# Altium integrated library Diodes - TVS.IntLib: 5379 symbols (part 14 of 122)
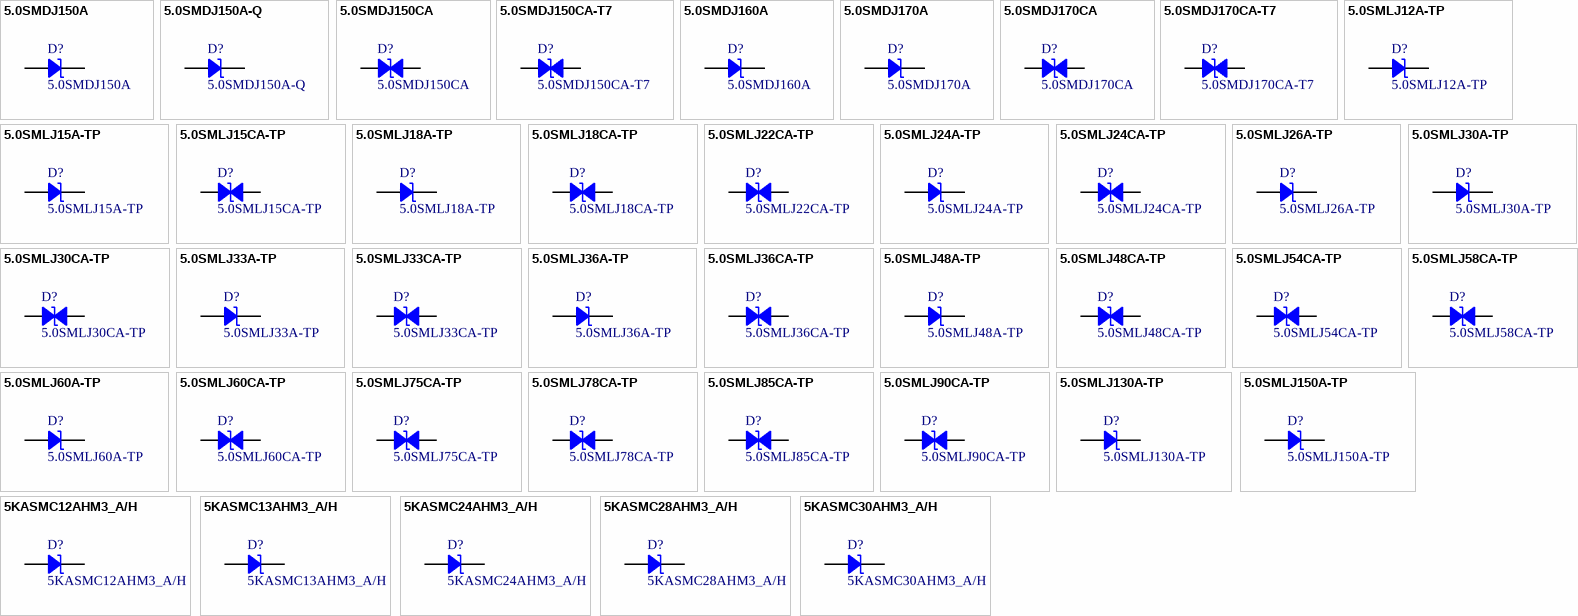
[diagram p147: symbols 5.0SMDJ150A to 5KASMC30AHM3_A/H]

## 5.0SMDJ170CA-T7
designator D?
TVS DIODE 170VWM 275VC SMD; Manufacturer: Littelfuse Inc.; Bidirectional Channels: 1; Current - Peak Pulse (10/1000µs): 18.2A; Power Line Protection: No; Power - Peak Pulse: 5000W (5kW); Type: Zener; Voltage - Breakdown (Min): 189V; Voltage - Clamping (Max) @ Ipp: 275V; Voltage - Reverse Standoff (Typ): 170V; Part Number: 5.0SMDJ170CA-T7; Applications: General Purpose; ComponentLink1Description: Datasheet; ComponentLink1URL: https://www.littelfuse.com/products/tvs-diodes/surface-mount/~/media/electronics/datasheets/tvs_diodes/littelfuse_tvs_diode_5_0smdj_datasheet.pdf.pdf; ComponentLink2Description: DigiKey Link; ComponentLink2URL: http://digikey.com/product-detail/en/littelfuse-inc/5.0SMDJ170CA-T7/5.0SMDJ170CA-T7CT-ND/8548355; LastUpdated: 9/2/2020 1:28:02 AM; Lifecycle Status: Active; Minimum Order: 1; Mounting Type: Surface Mount; Operating Temperature: -65°C ~ 150°C (TJ); Package / Case: DO-214AB, SMC; Packaging: TapeAndReel; PartId: 8022; Part Status: Active; Price: 1.49; Series: 5.0SMDJ; Supplier 1: DigiKey; Supplier Part Number 1: 5.0SMDJ170CA-T7CT-ND; Supplier Device Package: DO-214AB (SMCJ)
footprint DO214AB SMC
pins: 1, 2

## 5.0SMLJ12A-TP
designator D?
TVS DIODE 12V 19.9V DO214AB; Manufacturer: Micro Commercial Co; Current - Peak Pulse (10/1000µs): 252A; Power Line Protection: No; Power - Peak Pulse: 5000W (5kW); Type: Zener; Unidirectional Channels: 1; Voltage - Breakdown (Min): 13.3V; Part Number: 5.0SMLJ12A-TP; Applications: General Purpose; ComponentLink1Description: Datasheet; ComponentLink1URL: https://www.mccsemi.com/pdf/Products/5.0SMLJ11A-5.0SMLJ400A(LSMC)-J.pdf; ComponentLink2Description: DigiKey Link; ComponentLink2URL: http://digikey.com/product-detail/en/micro-commercial-co/5-0SMLJ12A-TP/353-5-0SMLJ12A-TPCT-ND/12090882; LastUpdated: 8/30/2020 9:01:03 PM; Lifecycle Status: Active; Minimum Order: 1; Mounting Type: Surface Mount; Package / Case: DO-214AB, SMC; Packaging: TapeAndReel; PartId: 11447; Price: 0.74; Supplier 1: DigiKey; Supplier Part Number 1: 353-5.0SMLJ12A-TPCT-ND; Supplier Device Package: DO-214AB (SMC); Voltage - Clamping (Max) @ Ipp: 19.9V; Voltage - Reverse Standoff (Typ): 12V
footprint DO214AB SMC
pins: 1, 2

## 5.0SMLJ15A-TP
designator D?
TVS DIODE 15V 24.4V DO214AB; Manufacturer: Micro Commercial Co; Current - Peak Pulse (10/1000µs): 205A; Power Line Protection: No; Power - Peak Pulse: 5000W (5kW); Type: Zener; Unidirectional Channels: 1; Voltage - Breakdown (Min): 16.7V; Part Number: 5.0SMLJ15A-TP; Applications: General Purpose; ComponentLink1Description: Datasheet; ComponentLink1URL: https://www.mccsemi.com/pdf/Products/5.0SMLJ11A-5.0SMLJ400A(LSMC)-J.pdf; ComponentLink2Description: DigiKey Link; ComponentLink2URL: http://digikey.com/product-detail/en/micro-commercial-co/5.0SMLJ15A-TP/5.0SMLJ15A-TPMSCT-ND/2233931; LastUpdated: 9/2/2020 1:20:05 AM; Lifecycle Status: Active; Minimum Order: 1; Mounting Type: Surface Mount; Operating Temperature: -55°C ~ 175°C (TJ); Package / Case: DO-214AB, SMC; Packaging: TapeAndReel; PartId: 6948; Part Status: Active; Price: 0.80; Series: -; Supplier 1: DigiKey; Supplier Part Number 1: 5.0SMLJ15A-TPMSCT-ND; Supplier Device Package: DO-214AB (SMC); Voltage - Clamping (Max) @ Ipp: 24.4V; Voltage - Reverse Standoff (Typ): 15V
footprint DO214AB SMC
pins: 1, 2

## 5.0SMLJ15CA-TP
designator D?
TVS DIODE 15V 24.4V DO214AB; Manufacturer: Micro Commercial Co; Bidirectional Channels: 1; Current - Peak Pulse (10/1000µs): 205A; Power Line Protection: No; Power - Peak Pulse: 5000W (5kW); Type: Zener; Voltage - Breakdown (Min): 16.7V; Part Number: 5.0SMLJ15CA-TP; Applications: General Purpose; ComponentLink1Description: Datasheet; ComponentLink1URL: https://www.mccsemi.com/pdf/Products/5.0SMLJ11A-5.0SMLJ400A(LSMC)-J.pdf; ComponentLink2Description: DigiKey Link; ComponentLink2URL: http://digikey.com/product-detail/en/micro-commercial-co/5.0SMLJ15CA-TP/5.0SMLJ15CA-TPMSCT-ND/2233938; LastUpdated: 9/2/2020 1:28:08 AM; Lifecycle Status: Active; Minimum Order: 1; Mounting Type: Surface Mount; Operating Temperature: -55°C ~ 175°C (TJ); Package / Case: DO-214AB, SMC; Packaging: TapeAndReel; PartId: 8712; Part Status: Active; Price: 0.80; Series: -; Supplier 1: DigiKey; Supplier Part Number 1: 5.0SMLJ15CA-TPMSCT-ND; Supplier Device Package: DO-214AB (SMC); Voltage - Clamping (Max) @ Ipp: 24.4V; Voltage - Reverse Standoff (Typ): 15V
footprint DO214AB SMC
pins: 1, 2

## 5.0SMLJ18A-TP
designator D?
TVS DIODE 18V 29.2V DO214AB; Manufacturer: Micro Commercial Co; Current - Peak Pulse (10/1000µs): 172A; Power Line Protection: No; Power - Peak Pulse: 5000W (5kW); Type: Zener; Unidirectional Channels: 1; Voltage - Breakdown (Min): 20V; Part Number: 5.0SMLJ18A-TP; Applications: General Purpose; ComponentLink1Description: Datasheet; ComponentLink1URL: https://www.mccsemi.com/pdf/Products/5.0SMLJ11A-5.0SMLJ400A(LSMC)-J.pdf; ComponentLink2Description: DigiKey Link; ComponentLink2URL: http://digikey.com/product-detail/en/micro-commercial-co/5.0SMLJ18A-TP/5.0SMLJ18A-TPMSCT-ND/2233932; LastUpdated: 9/2/2020 1:20:05 AM; Lifecycle Status: Active; Minimum Order: 1; Mounting Type: Surface Mount; Operating Temperature: -55°C ~ 175°C (TJ); Package / Case: DO-214AB, SMC; Packaging: TapeAndReel; PartId: 6944; Part Status: Active; Price: 0.80; Series: -; Supplier 1: DigiKey; Supplier Part Number 1: 5.0SMLJ18A-TPMSCT-ND; Supplier Device Package: DO-214AB (SMC); Voltage - Clamping (Max) @ Ipp: 29.2V; Voltage - Reverse Standoff (Typ): 18V
footprint DO214AB SMC
pins: 1, 2

## 5.0SMLJ18CA-TP
designator D?
TVS DIODE 18V 29.2V DO214AB; Manufacturer: Micro Commercial Co; Bidirectional Channels: 1; Current - Peak Pulse (10/1000µs): 172A; Power Line Protection: No; Power - Peak Pulse: 5000W (5kW); Type: Zener; Voltage - Breakdown (Min): 20V; Part Number: 5.0SMLJ18CA-TP; Applications: General Purpose; ComponentLink1Description: Datasheet; ComponentLink1URL: https://www.mccsemi.com/pdf/Products/5.0SMLJ11A-5.0SMLJ400A(LSMC)-J.pdf; ComponentLink2Description: DigiKey Link; ComponentLink2URL: http://digikey.com/product-detail/en/micro-commercial-co/5.0SMLJ18CA-TP/5.0SMLJ18CA-TPMSCT-ND/2233939; LastUpdated: 9/2/2020 1:28:07 AM; Lifecycle Status: Active; Minimum Order: 1; Mounting Type: Surface Mount; Operating Temperature: -55°C ~ 175°C (TJ); Package / Case: DO-214AB, SMC; Packaging: TapeAndReel; PartId: 8551; Part Status: Active; Price: 0.80; Series: -; Supplier 1: DigiKey; Supplier Part Number 1: 5.0SMLJ18CA-TPMSCT-ND; Supplier Device Package: DO-214AB (SMC); Voltage - Clamping (Max) @ Ipp: 29.2V; Voltage - Reverse Standoff (Typ): 18V
footprint DO214AB SMC
pins: 1, 2

## 5.0SMLJ22CA-TP
designator D?
TVS DIODE 22V 35.5V DO214AB; Manufacturer: Micro Commercial Co; Bidirectional Channels: 1; Current - Peak Pulse (10/1000µs): 141A; Power Line Protection: No; Power - Peak Pulse: 5000W (5kW); Type: Zener; Voltage - Breakdown (Min): 24.4V; Part Number: 5.0SMLJ22CA-TP; Applications: General Purpose; ComponentLink1Description: Datasheet; ComponentLink1URL: https://www.mccsemi.com/pdf/Products/5.0SMLJ11A-5.0SMLJ400A(LSMC)-J.pdf; ComponentLink2Description: DigiKey Link; ComponentLink2URL: http://digikey.com/product-detail/en/micro-commercial-co/5.0SMLJ22CA-TP/5.0SMLJ22CA-TPMSCT-ND/5114035; LastUpdated: 9/2/2020 1:28:08 AM; Lifecycle Status: Active; Minimum Order: 1; Mounting Type: Surface Mount; Operating Temperature: -55°C ~ 175°C (TJ); Package / Case: DO-214AB, SMC; Packaging: TapeAndReel; PartId: 8711; Part Status: Active; Price: 0.80; Series: -; Supplier 1: DigiKey; Supplier Part Number 1: 5.0SMLJ22CA-TPMSCT-ND; Supplier Device Package: DO-214AB (SMC); Voltage - Clamping (Max) @ Ipp: 35.5V; Voltage - Reverse Standoff (Typ): 22V
footprint DO214AB SMC
pins: 1, 2

## 5.0SMLJ24A-TP
designator D?
TVS DIODE 24V 38.9V DO214AB; Manufacturer: Micro Commercial Co; Current - Peak Pulse (10/1000µs): 129A; Power Line Protection: No; Power - Peak Pulse: 5000W (5kW); Type: Zener; Unidirectional Channels: 1; Voltage - Breakdown (Min): 26.7V; Part Number: 5.0SMLJ24A-TP; Applications: General Purpose; ComponentLink1Description: Datasheet; ComponentLink1URL: https://www.mccsemi.com/pdf/Products/5.0SMLJ11A-5.0SMLJ400A(LSMC)-J.pdf; ComponentLink2Description: DigiKey Link; ComponentLink2URL: http://digikey.com/product-detail/en/micro-commercial-co/5.0SMLJ24A-TP/5.0SMLJ24A-TPMSCT-ND/2233933; LastUpdated: 9/2/2020 1:20:04 AM; Lifecycle Status: Active; Minimum Order: 1; Mounting Type: Surface Mount; Operating Temperature: -55°C ~ 175°C (TJ); Package / Case: DO-214AB, SMC; Packaging: TapeAndReel; PartId: 6835; Part Status: Active; Price: 0.80; Series: -; Supplier 1: DigiKey; Supplier Part Number 1: 5.0SMLJ24A-TPMSCT-ND; Supplier Device Package: DO-214AB (SMC); Voltage - Clamping (Max) @ Ipp: 38.9V; Voltage - Reverse Standoff (Typ): 24V
footprint DO214AB SMC
pins: 1, 2

## 5.0SMLJ24CA-TP
designator D?
TVS DIODE 24V 38.9V DO214AB; Manufacturer: Micro Commercial Co; Bidirectional Channels: 1; Current - Peak Pulse (10/1000µs): 129A; Power Line Protection: No; Power - Peak Pulse: 5000W (5kW); Type: Zener; Voltage - Breakdown (Min): 26.7V; Part Number: 5.0SMLJ24CA-TP; Applications: General Purpose; ComponentLink1Description: Datasheet; ComponentLink1URL: https://www.mccsemi.com/pdf/Products/5.0SMLJ11A-5.0SMLJ400A(LSMC)-J.pdf; ComponentLink2Description: DigiKey Link; ComponentLink2URL: http://digikey.com/product-detail/en/micro-commercial-co/5.0SMLJ24CA-TP/5.0SMLJ24CA-TPMSCT-ND/2233940; LastUpdated: 9/2/2020 1:28:09 AM; Lifecycle Status: Active; Minimum Order: 1; Mounting Type: Surface Mount; Operating Temperature: -55°C ~ 175°C (TJ); Package / Case: DO-214AB, SMC; Packaging: TapeAndReel; PartId: 8800; Part Status: Active; Price: 0.80; Series: -; Supplier 1: DigiKey; Supplier Part Number 1: 5.0SMLJ24CA-TPMSCT-ND; Supplier Device Package: DO-214AB (SMC); Voltage - Clamping (Max) @ Ipp: 38.9V; Voltage - Reverse Standoff (Typ): 24V
footprint DO214AB SMC
pins: 1, 2

## 5.0SMLJ26A-TP
designator D?
TVS DIODE 26V 42.1V DO214AB; Manufacturer: Micro Commercial Co; Current - Peak Pulse (10/1000µs): 119A; Power Line Protection: No; Power - Peak Pulse: 5000W (5kW); Type: Zener; Unidirectional Channels: 1; Voltage - Breakdown (Min): 28.9V; Part Number: 5.0SMLJ26A-TP; Applications: General Purpose; ComponentLink1Description: Datasheet; ComponentLink1URL: https://www.mccsemi.com/pdf/Products/5.0SMLJ11A-5.0SMLJ400A(LSMC)-J.pdf; ComponentLink2Description: DigiKey Link; ComponentLink2URL: http://digikey.com/product-detail/en/micro-commercial-co/5.0SMLJ26A-TP/5.0SMLJ26A-TPMSCT-ND/5114036; LastUpdated: 9/2/2020 1:20:05 AM; Lifecycle Status: Active; Minimum Order: 1; Mounting Type: Surface Mount; Operating Temperature: -55°C ~ 175°C (TJ); Package / Case: DO-214AB, SMC; Packaging: TapeAndReel; PartId: 6953; Part Status: Active; Price: 0.76; Series: -; Supplier 1: DigiKey; Supplier Part Number 1: 5.0SMLJ26A-TPMSCT-ND; Supplier Device Package: DO-214AB (SMC); Voltage - Clamping (Max) @ Ipp: 42.1V; Voltage - Reverse Standoff (Typ): 26V
footprint DO214AB SMC
pins: 1, 2

## 5.0SMLJ30A-TP
designator D?
TVS DIODE 30V 48.4V DO214AB; Manufacturer: Micro Commercial Co; Current - Peak Pulse (10/1000µs): 103A; Power Line Protection: No; Power - Peak Pulse: 5000W (5kW); Type: Zener; Unidirectional Channels: 1; Voltage - Breakdown (Min): 33.3V; Part Number: 5.0SMLJ30A-TP; Applications: General Purpose; ComponentLink1Description: Datasheet; ComponentLink1URL: https://www.mccsemi.com/pdf/Products/5.0SMLJ11A-5.0SMLJ400A(LSMC)-J.pdf; ComponentLink2Description: DigiKey Link; ComponentLink2URL: http://digikey.com/product-detail/en/micro-commercial-co/5.0SMLJ30A-TP/5.0SMLJ30A-TPMSCT-ND/3191603; LastUpdated: 9/2/2020 1:19:58 AM; Lifecycle Status: Active; Minimum Order: 1; Mounting Type: Surface Mount; Operating Temperature: -55°C ~ 175°C (TJ); Package / Case: DO-214AB, SMC; Packaging: TapeAndReel; PartId: 6235; Part Status: Active; Price: 0.76; Series: -; Supplier 1: DigiKey; Supplier Part Number 1: 5.0SMLJ30A-TPMSCT-ND; Supplier Device Package: DO-214AB (SMC); Voltage - Clamping (Max) @ Ipp: 48.4V; Voltage - Reverse Standoff (Typ): 30V
footprint DO214AB SMC
pins: 1, 2

## 5.0SMLJ30CA-TP
designator D?
TVS DIODE 30V 48.4V DO214AB; Manufacturer: Micro Commercial Co; Bidirectional Channels: 1; Current - Peak Pulse (10/1000µs): 103A; Power Line Protection: No; Power - Peak Pulse: 5000W (5kW); Type: Zener; Voltage - Breakdown (Min): 33.3V; Part Number: 5.0SMLJ30CA-TP; Applications: General Purpose; ComponentLink1Description: Datasheet; ComponentLink1URL: https://www.mccsemi.com/pdf/Products/5.0SMLJ11A-5.0SMLJ400A(LSMC)-J.pdf; ComponentLink2Description: DigiKey Link; ComponentLink2URL: http://digikey.com/product-detail/en/micro-commercial-co/5.0SMLJ30CA-TP/5.0SMLJ30CA-TPMSCT-ND/3191604; LastUpdated: 9/2/2020 1:28:06 AM; Lifecycle Status: Active; Minimum Order: 1; Mounting Type: Surface Mount; Operating Temperature: -55°C ~ 175°C (TJ); Package / Case: DO-214AB, SMC; Packaging: TapeAndReel; PartId: 8425; Part Status: Active; Price: 0.80; Series: -; Supplier 1: DigiKey; Supplier Part Number 1: 5.0SMLJ30CA-TPMSCT-ND; Supplier Device Package: DO-214AB (SMC); Voltage - Clamping (Max) @ Ipp: 48.4V; Voltage - Reverse Standoff (Typ): 30V
footprint DO214AB SMC
pins: 1, 2

## 5.0SMLJ33A-TP
designator D?
TVS DIODE 33V 53.3V DO214AB; Manufacturer: Micro Commercial Co; Current - Peak Pulse (10/1000µs): 93.9A; Power Line Protection: No; Power - Peak Pulse: 5000W (5kW); Type: Zener; Unidirectional Channels: 1; Voltage - Breakdown (Min): 36.7V; Part Number: 5.0SMLJ33A-TP; Applications: General Purpose; ComponentLink1Description: Datasheet; ComponentLink1URL: https://www.mccsemi.com/pdf/Products/5.0SMLJ11A-5.0SMLJ400A(LSMC)-J.pdf; ComponentLink2Description: DigiKey Link; ComponentLink2URL: http://digikey.com/product-detail/en/micro-commercial-co/5.0SMLJ33A-TP/5.0SMLJ33A-TPMSCT-ND/2233934; LastUpdated: 9/2/2020 1:20:05 AM; Lifecycle Status: Active; Minimum Order: 1; Mounting Type: Surface Mount; Operating Temperature: -55°C ~ 175°C (TJ); Package / Case: DO-214AB, SMC; Packaging: TapeAndReel; PartId: 6950; Part Status: Active; Price: 0.80; Series: -; Supplier 1: DigiKey; Supplier Part Number 1: 5.0SMLJ33A-TPMSCT-ND; Supplier Device Package: DO-214AB (SMC); Voltage - Clamping (Max) @ Ipp: 53.3V; Voltage - Reverse Standoff (Typ): 33V
footprint DO214AB SMC
pins: 1, 2

## 5.0SMLJ33CA-TP
designator D?
TVS DIODE 33V 53.3V DO214AB; Manufacturer: Micro Commercial Co; Bidirectional Channels: 1; Current - Peak Pulse (10/1000µs): 93.9A; Power Line Protection: No; Power - Peak Pulse: 5000W (5kW); Type: Zener; Voltage - Breakdown (Min): 36.7V; Part Number: 5.0SMLJ33CA-TP; Applications: General Purpose; ComponentLink1Description: Datasheet; ComponentLink1URL: https://www.mccsemi.com/pdf/Products/5.0SMLJ11A-5.0SMLJ400A(LSMC)-J.pdf; ComponentLink2Description: DigiKey Link; ComponentLink2URL: http://digikey.com/product-detail/en/micro-commercial-co/5.0SMLJ33CA-TP/5.0SMLJ33CA-TPMSCT-ND/2233941; LastUpdated: 9/2/2020 1:28:06 AM; Lifecycle Status: Active; Minimum Order: 1; Mounting Type: Surface Mount; Operating Temperature: -55°C ~ 175°C (TJ); Package / Case: DO-214AB, SMC; Packaging: TapeAndReel; PartId: 8424; Part Status: Active; Price: 0.80; Series: -; Supplier 1: DigiKey; Supplier Part Number 1: 5.0SMLJ33CA-TPMSCT-ND; Supplier Device Package: DO-214AB (SMC); Voltage - Clamping (Max) @ Ipp: 53.3V; Voltage - Reverse Standoff (Typ): 33V
footprint DO214AB SMC
pins: 1, 2

## 5.0SMLJ36A-TP
designator D?
TVS DIODE 36V 58.1V DO214AB; Manufacturer: Micro Commercial Co; Current - Peak Pulse (10/1000µs): 86.1A; Power Line Protection: No; Power - Peak Pulse: 5000W (5kW); Type: Zener; Unidirectional Channels: 1; Voltage - Breakdown (Min): 40V; Part Number: 5.0SMLJ36A-TP; Applications: General Purpose; ComponentLink1Description: Datasheet; ComponentLink1URL: https://www.mccsemi.com/pdf/Products/5.0SMLJ11A-5.0SMLJ400A(LSMC)-J.pdf; ComponentLink2Description: DigiKey Link; ComponentLink2URL: http://digikey.com/product-detail/en/micro-commercial-co/5.0SMLJ36A-TP/5.0SMLJ36A-TPMSCT-ND/2233935; LastUpdated: 9/2/2020 1:20:05 AM; Lifecycle Status: Active; Minimum Order: 1; Mounting Type: Surface Mount; Operating Temperature: -55°C ~ 175°C (TJ); Package / Case: DO-214AB, SMC; Packaging: TapeAndReel; PartId: 6946; Part Status: Active; Price: 0.80; Series: -; Supplier 1: DigiKey; Supplier Part Number 1: 5.0SMLJ36A-TPMSCT-ND; Supplier Device Package: DO-214AB (SMC); Voltage - Clamping (Max) @ Ipp: 58.1V; Voltage - Reverse Standoff (Typ): 36V
footprint DO214AB SMC
pins: 1, 2

## 5.0SMLJ36CA-TP
designator D?
TVS DIODE 36V 58.1V DO214AB; Manufacturer: Micro Commercial Co; Bidirectional Channels: 1; Current - Peak Pulse (10/1000µs): 86.1A; Power Line Protection: No; Power - Peak Pulse: 5000W (5kW); Type: Zener; Voltage - Breakdown (Min): 40V; Part Number: 5.0SMLJ36CA-TP; Applications: General Purpose; ComponentLink1Description: Datasheet; ComponentLink1URL: https://www.mccsemi.com/pdf/Products/5.0SMLJ11A-5.0SMLJ400A(LSMC)-J.pdf; ComponentLink2Description: DigiKey Link; ComponentLink2URL: http://digikey.com/product-detail/en/micro-commercial-co/5.0SMLJ36CA-TP/5.0SMLJ36CA-TPMSCT-ND/2233942; LastUpdated: 9/2/2020 1:28:01 AM; Lifecycle Status: Active; Minimum Order: 1; Mounting Type: Surface Mount; Operating Temperature: -55°C ~ 175°C (TJ); Package / Case: DO-214AB, SMC; Packaging: TapeAndReel; PartId: 7885; Part Status: Active; Price: 0.80; Series: -; Supplier 1: DigiKey; Supplier Part Number 1: 5.0SMLJ36CA-TPMSCT-ND; Supplier Device Package: DO-214AB (SMC); Voltage - Clamping (Max) @ Ipp: 58.1V; Voltage - Reverse Standoff (Typ): 36V
footprint DO214AB SMC
pins: 1, 2

## 5.0SMLJ48A-TP
designator D?
TVS DIODE 48V 77.4V DO214AB; Manufacturer: Micro Commercial Co; Current - Peak Pulse (10/1000µs): 64.7A; Power Line Protection: No; Power - Peak Pulse: 5000W (5kW); Type: Zener; Unidirectional Channels: 1; Voltage - Breakdown (Min): 53.3V; Part Number: 5.0SMLJ48A-TP; Applications: General Purpose; ComponentLink1Description: Datasheet; ComponentLink1URL: https://www.mccsemi.com/pdf/Products/5.0SMLJ11A-5.0SMLJ400A(LSMC)-J.pdf; ComponentLink2Description: DigiKey Link; ComponentLink2URL: http://digikey.com/product-detail/en/micro-commercial-co/5.0SMLJ48A-TP/5.0SMLJ48A-TPMSCT-ND/2233936; LastUpdated: 9/2/2020 1:20:00 AM; Lifecycle Status: Active; Minimum Order: 1; Mounting Type: Surface Mount; Operating Temperature: -55°C ~ 175°C (TJ); Package / Case: DO-214AB, SMC; Packaging: TapeAndReel; PartId: 6444; Part Status: Active; Price: 0.80; Series: -; Supplier 1: DigiKey; Supplier Part Number 1: 5.0SMLJ48A-TPMSCT-ND; Supplier Device Package: DO-214AB (SMC); Voltage - Clamping (Max) @ Ipp: 77.4V; Voltage - Reverse Standoff (Typ): 48V
footprint DO214AB SMC
pins: 1, 2

## 5.0SMLJ48CA-TP
designator D?
TVS DIODE 48V 77.4V DO214AB; Manufacturer: Micro Commercial Co; Bidirectional Channels: 1; Current - Peak Pulse (10/1000µs): 64.7A; Power Line Protection: No; Power - Peak Pulse: 5000W (5kW); Type: Zener; Voltage - Breakdown (Min): 53.3V; Part Number: 5.0SMLJ48CA-TP; Applications: General Purpose; ComponentLink1Description: Datasheet; ComponentLink1URL: https://www.mccsemi.com/pdf/Products/5.0SMLJ11A-5.0SMLJ400A(LSMC)-J.pdf; ComponentLink2Description: DigiKey Link; ComponentLink2URL: http://digikey.com/product-detail/en/micro-commercial-co/5.0SMLJ48CA-TP/5.0SMLJ48CA-TPMSCT-ND/2233943; LastUpdated: 9/2/2020 1:28:06 AM; Lifecycle Status: Active; Minimum Order: 1; Mounting Type: Surface Mount; Operating Temperature: -55°C ~ 175°C (TJ); Package / Case: DO-214AB, SMC; Packaging: TapeAndReel; PartId: 8427; Part Status: Active; Price: 0.80; Series: -; Supplier 1: DigiKey; Supplier Part Number 1: 5.0SMLJ48CA-TPMSCT-ND; Supplier Device Package: DO-214AB (SMC); Voltage - Clamping (Max) @ Ipp: 77.4V; Voltage - Reverse Standoff (Typ): 48V
footprint DO214AB SMC
pins: 1, 2

## 5.0SMLJ54CA-TP
designator D?
TVS DIODE 54V 87.1V DO214AB; Manufacturer: Micro Commercial Co; Bidirectional Channels: 1; Current - Peak Pulse (10/1000µs): 57.5A; Power Line Protection: No; Power - Peak Pulse: 5000W (5kW); Type: Zener; Voltage - Breakdown (Min): 60V; Part Number: 5.0SMLJ54CA-TP; Applications: General Purpose; ComponentLink1Description: Datasheet; ComponentLink1URL: https://www.mccsemi.com/pdf/Products/5.0SMLJ11A-5.0SMLJ400A(LSMC)-J.pdf; ComponentLink2Description: DigiKey Link; ComponentLink2URL: http://digikey.com/product-detail/en/micro-commercial-co/5.0SMLJ54CA-TP/5.0SMLJ54CA-TPMSCT-ND/5865082; LastUpdated: 9/2/2020 1:28:01 AM; Lifecycle Status: Active; Minimum Order: 1; Mounting Type: Surface Mount; Operating Temperature: -55°C ~ 175°C (TJ); Package / Case: DO-214AB, SMC; Packaging: TapeAndReel; PartId: 7884; Part Status: Active; Price: 0.80; Series: -; Supplier 1: DigiKey; Supplier Part Number 1: 5.0SMLJ54CA-TPMSCT-ND; Supplier Device Package: DO-214AB (SMC); Voltage - Clamping (Max) @ Ipp: 87.1V; Voltage - Reverse Standoff (Typ): 54V
footprint DO214AB SMC
pins: 1, 2

## 5.0SMLJ58CA-TP
designator D?
TVS DIODE 58V 93.6V DO214AB; Manufacturer: Micro Commercial Co; Bidirectional Channels: 1; Current - Peak Pulse (10/1000µs): 53.5A; Power Line Protection: No; Power - Peak Pulse: 5000W (5kW); Type: Zener; Voltage - Breakdown (Min): 64.4V; Part Number: 5.0SMLJ58CA-TP; Applications: General Purpose; ComponentLink1Description: Datasheet; ComponentLink1URL: https://www.mccsemi.com/pdf/Products/5.0SMLJ11A-5.0SMLJ400A(LSMC)-J.pdf; ComponentLink2Description: DigiKey Link; ComponentLink2URL: http://digikey.com/product-detail/en/micro-commercial-co/5.0SMLJ58CA-TP/5.0SMLJ58CA-TPMSCT-ND/5418796; LastUpdated: 9/2/2020 1:28:06 AM; Lifecycle Status: Active; Minimum Order: 1; Mounting Type: Surface Mount; Operating Temperature: -55°C ~ 175°C (TJ); Package / Case: DO-214AB, SMC; Packaging: TapeAndReel; PartId: 8426; Part Status: Active; Price: 0.80; Series: -; Supplier 1: DigiKey; Supplier Part Number 1: 5.0SMLJ58CA-TPMSCT-ND; Supplier Device Package: DO-214AB (SMC); Voltage - Clamping (Max) @ Ipp: 93.6V; Voltage - Reverse Standoff (Typ): 58V
footprint DO214AB SMC
pins: 1, 2

## 5.0SMLJ60A-TP
designator D?
TVS DIODE 60V 96.8V DO214AB; Manufacturer: Micro Commercial Co; Current - Peak Pulse (10/1000µs): 51.7A; Power Line Protection: No; Power - Peak Pulse: 5000W (5kW); Type: Zener; Unidirectional Channels: 1; Voltage - Breakdown (Min): 66.7V; Part Number: 5.0SMLJ60A-TP; Applications: General Purpose; ComponentLink1Description: Datasheet; ComponentLink1URL: https://www.mccsemi.com/pdf/Products/5.0SMLJ11A-5.0SMLJ400A(LSMC)-J.pdf; ComponentLink2Description: DigiKey Link; ComponentLink2URL: http://digikey.com/product-detail/en/micro-commercial-co/5.0SMLJ60A-TP/5.0SMLJ60A-TPMSCT-ND/3191605; LastUpdated: 9/2/2020 1:20:08 AM; Lifecycle Status: Active; Minimum Order: 1; Mounting Type: Surface Mount; Operating Temperature: -55°C ~ 175°C (TJ); Package / Case: DO-214AB, SMC; Packaging: TapeAndReel; PartId: 7214; Part Status: Active; Price: 0.76; Series: -; Supplier 1: DigiKey; Supplier Part Number 1: 5.0SMLJ60A-TPMSCT-ND; Supplier Device Package: DO-214AB (SMC); Voltage - Clamping (Max) @ Ipp: 96.8V; Voltage - Reverse Standoff (Typ): 60V
footprint DO214AB SMC
pins: 1, 2

## 5.0SMLJ60CA-TP
designator D?
TVS DIODE 60V 96.8V DO214AB; Manufacturer: Micro Commercial Co; Bidirectional Channels: 1; Current - Peak Pulse (10/1000µs): 51.7A; Power Line Protection: No; Power - Peak Pulse: 5000W (5kW); Type: Zener; Voltage - Breakdown (Min): 66.7V; Part Number: 5.0SMLJ60CA-TP; Applications: General Purpose; ComponentLink1Description: Datasheet; ComponentLink1URL: https://www.mccsemi.com/pdf/Products/5.0SMLJ11A-5.0SMLJ400A(LSMC)-J.pdf; ComponentLink2Description: DigiKey Link; ComponentLink2URL: http://digikey.com/product-detail/en/micro-commercial-co/5.0SMLJ60CA-TP/5.0SMLJ60CA-TPMSCT-ND/3191606; LastUpdated: 9/2/2020 1:28:09 AM; Lifecycle Status: Active; Minimum Order: 1; Mounting Type: Surface Mount; Operating Temperature: -55°C ~ 175°C (TJ); Package / Case: DO-214AB, SMC; Packaging: TapeAndReel; PartId: 8799; Part Status: Active; Price: 0.80; Series: -; Supplier 1: DigiKey; Supplier Part Number 1: 5.0SMLJ60CA-TPMSCT-ND; Supplier Device Package: DO-214AB (SMC); Voltage - Clamping (Max) @ Ipp: 96.8V; Voltage - Reverse Standoff (Typ): 60V
footprint DO214AB SMC
pins: 1, 2

## 5.0SMLJ75CA-TP
designator D?
TVS DIODE 75V 121V DO214AB; Manufacturer: Micro Commercial Co; Bidirectional Channels: 1; Current - Peak Pulse (10/1000µs): 41.4A; Power Line Protection: No; Power - Peak Pulse: 5000W (5kW); Type: Zener; Voltage - Breakdown (Min): 83.3V; Part Number: 5.0SMLJ75CA-TP; Applications: General Purpose; ComponentLink1Description: Datasheet; ComponentLink1URL: https://www.mccsemi.com/pdf/Products/5.0SMLJ11A-5.0SMLJ400A(LSMC)-J.pdf; ComponentLink2Description: DigiKey Link; ComponentLink2URL: http://digikey.com/product-detail/en/micro-commercial-co/5.0SMLJ75CA-TP/5.0SMLJ75CA-TPMSCT-ND/4429424; LastUpdated: 9/2/2020 1:28:07 AM; Lifecycle Status: Active; Minimum Order: 1; Mounting Type: Surface Mount; Operating Temperature: -55°C ~ 175°C (TJ); Package / Case: DO-214AB, SMC; Packaging: TapeAndReel; PartId: 8505; Part Status: Active; Price: 0.80; Series: -; Supplier 1: DigiKey; Supplier Part Number 1: 5.0SMLJ75CA-TPMSCT-ND; Supplier Device Package: DO-214AB (SMC); Voltage - Clamping (Max) @ Ipp: 121V; Voltage - Reverse Standoff (Typ): 75V
footprint DO214AB SMC
pins: 1, 2

## 5.0SMLJ78CA-TP
designator D?
TVS DIODE 78V 126V DO214AB; Manufacturer: Micro Commercial Co; Bidirectional Channels: 1; Current - Peak Pulse (10/1000µs): 39.7A; Power Line Protection: No; Power - Peak Pulse: 5000W (5kW); Type: Zener; Voltage - Breakdown (Min): 86.7V; Part Number: 5.0SMLJ78CA-TP; Applications: General Purpose; ComponentLink1Description: Datasheet; ComponentLink1URL: https://www.mccsemi.com/pdf/Products/5.0SMLJ11A-5.0SMLJ400A(LSMC)-J.pdf; ComponentLink2Description: DigiKey Link; ComponentLink2URL: http://digikey.com/product-detail/en/micro-commercial-co/5.0SMLJ78CA-TP/5.0SMLJ78CA-TPMSCT-ND/4429425; LastUpdated: 9/2/2020 1:28:01 AM; Lifecycle Status: Active; Minimum Order: 1; Mounting Type: Surface Mount; Operating Temperature: -55°C ~ 175°C (TJ); Package / Case: DO-214AB, SMC; Packaging: TapeAndReel; PartId: 7886; Part Status: Active; Price: 0.80; Series: -; Supplier 1: DigiKey; Supplier Part Number 1: 5.0SMLJ78CA-TPMSCT-ND; Supplier Device Package: DO-214AB (SMC); Voltage - Clamping (Max) @ Ipp: 126V; Voltage - Reverse Standoff (Typ): 78V
footprint DO214AB SMC
pins: 1, 2

## 5.0SMLJ85CA-TP
designator D?
TVS DIODE 85V 137V DO214AB; Manufacturer: Micro Commercial Co; Bidirectional Channels: 1; Current - Peak Pulse (10/1000µs): 36.5A; Power Line Protection: No; Power - Peak Pulse: 5000W (5kW); Type: Zener; Voltage - Breakdown (Min): 94.4V; Part Number: 5.0SMLJ85CA-TP; Applications: General Purpose; ComponentLink1Description: Datasheet; ComponentLink1URL: https://www.mccsemi.com/pdf/Products/5.0SMLJ11A-5.0SMLJ400A(LSMC)-J.pdf; ComponentLink2Description: DigiKey Link; ComponentLink2URL: http://digikey.com/product-detail/en/micro-commercial-co/5.0SMLJ85CA-TP/5.0SMLJ85CA-TPMSCT-ND/4429426; LastUpdated: 9/2/2020 1:28:07 AM; Lifecycle Status: Active; Minimum Order: 1; Mounting Type: Surface Mount; Operating Temperature: -55°C ~ 175°C (TJ); Package / Case: DO-214AB, SMC; Packaging: TapeAndReel; PartId: 8507; Part Status: Active; Price: 0.80; Series: -; Supplier 1: DigiKey; Supplier Part Number 1: 5.0SMLJ85CA-TPMSCT-ND; Supplier Device Package: DO-214AB (SMC); Voltage - Clamping (Max) @ Ipp: 137V; Voltage - Reverse Standoff (Typ): 85V
footprint DO214AB SMC
pins: 1, 2

## 5.0SMLJ90CA-TP
designator D?
TVS DIODE 90V 146V DO214AB; Manufacturer: Micro Commercial Co; Bidirectional Channels: 1; Current - Peak Pulse (10/1000µs): 34.3A; Power Line Protection: No; Power - Peak Pulse: 5000W (5kW); Type: Zener; Voltage - Breakdown (Min): 100V; Part Number: 5.0SMLJ90CA-TP; Applications: General Purpose; ComponentLink1Description: Datasheet; ComponentLink1URL: https://www.mccsemi.com/pdf/Products/5.0SMLJ11A-5.0SMLJ400A(LSMC)-J.pdf; ComponentLink2Description: DigiKey Link; ComponentLink2URL: http://digikey.com/product-detail/en/micro-commercial-co/5.0SMLJ90CA-TP/5.0SMLJ90CA-TPMSCT-ND/5865083; LastUpdated: 9/2/2020 1:28:07 AM; Lifecycle Status: Active; Minimum Order: 1; Mounting Type: Surface Mount; Operating Temperature: -55°C ~ 175°C (TJ); Package / Case: DO-214AB, SMC; Packaging: TapeAndReel; PartId: 8506; Part Status: Active; Price: 0.80; Series: -; Supplier 1: DigiKey; Supplier Part Number 1: 5.0SMLJ90CA-TPMSCT-ND; Supplier Device Package: DO-214AB (SMC); Voltage - Clamping (Max) @ Ipp: 146V; Voltage - Reverse Standoff (Typ): 90V
footprint DO214AB SMC
pins: 1, 2

## 5.0SMLJ130A-TP
designator D?
TVS DIODE 130V 209V DO214AB; Manufacturer: Micro Commercial Co; Current - Peak Pulse (10/1000µs): 24A; Power Line Protection: No; Power - Peak Pulse: 5000W (5kW); Type: Zener; Unidirectional Channels: 1; Voltage - Breakdown (Min): 144V; Part Number: 5.0SMLJ130A-TP; Applications: General Purpose; ComponentLink1Description: Datasheet; ComponentLink1URL: https://www.mccsemi.com/pdf/Products/5.0SMLJ11A-5.0SMLJ400A(LSMC)-J.pdf; ComponentLink2Description: DigiKey Link; ComponentLink2URL: http://digikey.com/product-detail/en/micro-commercial-co/5-0SMLJ130A-TP/353-5-0SMLJ130A-TPCT-ND/12090868; LastUpdated: 8/30/2020 9:01:03 PM; Lifecycle Status: Active; Minimum Order: 1; Mounting Type: Surface Mount; Package / Case: DO-214AB, SMC; Packaging: TapeAndReel; PartId: 11448; Price: 0.74; Supplier 1: DigiKey; Supplier Part Number 1: 353-5.0SMLJ130A-TPCT-ND; Supplier Device Package: DO-214AB (SMC); Voltage - Clamping (Max) @ Ipp: 209V; Voltage - Reverse Standoff (Typ): 130V
footprint DO214AB SMC
pins: 1, 2

## 5.0SMLJ150A-TP
designator D?
TVS DIODE 150V 243V DO214AB; Manufacturer: Micro Commercial Co; Current - Peak Pulse (10/1000µs): 20.6A; Power Line Protection: No; Power - Peak Pulse: 5000W (5kW); Type: Zener; Unidirectional Channels: 1; Voltage - Breakdown (Min): 167V; Part Number: 5.0SMLJ150A-TP; Applications: General Purpose; ComponentLink1Description: Datasheet; ComponentLink1URL: https://www.mccsemi.com/pdf/Products/5.0SMLJ11A-5.0SMLJ400A(LSMC)-J.pdf; ComponentLink2Description: DigiKey Link; ComponentLink2URL: http://digikey.com/product-detail/en/micro-commercial-co/5.0SMLJ150A-TP/5.0SMLJ150A-TPMSCT-ND/2233937; LastUpdated: 9/2/2020 1:20:08 AM; Lifecycle Status: Active; Minimum Order: 1; Mounting Type: Surface Mount; Operating Temperature: -55°C ~ 175°C (TJ); Package / Case: DO-214AB, SMC; Packaging: TapeAndReel; PartId: 7208; Part Status: Active; Price: 0.80; Series: -; Supplier 1: DigiKey; Supplier Part Number 1: 5.0SMLJ150A-TPMSCT-ND; Supplier Device Package: DO-214AB (SMC); Voltage - Clamping (Max) @ Ipp: 243V; Voltage - Reverse Standoff (Typ): 150V
footprint DO214AB SMC
pins: 1, 2

## 5KASMC12AHM3_A/H
designator D?
TVS DIODE 12V 19.9V DO214AB; Manufacturer: Vishay Semiconductor Diodes Division; Power Line Protection: No; Power - Peak Pulse: 5000W (5kW); Type: Zener; Unidirectional Channels: 1; Voltage - Breakdown (Min): 13.3V; Part Number: 5KASMC12AHM3_A/H; Applications: Automotive; ComponentLink1Description: Datasheet; ComponentLink1URL: http://www.vishay.com/docs/89432/5kasmc.pdf; ComponentLink2Description: DigiKey Link; ComponentLink2URL: http://digikey.com/product-detail/en/vishay-semiconductor-diodes-division/5KASMC12AHM3_A-H/5KASMC12AHM3_A-HGICT-ND/6710018; LastUpdated: 9/2/2020 1:20:05 AM; Lifecycle Status: Active; Minimum Order: 1; Mounting Type: Surface Mount; Operating Temperature: -65°C ~ 185°C (TJ); Package / Case: DO-214AB, SMC; Packaging: TapeAndReel; PartId: 6911; Part Status: Active; Price: 1.34; Series: Automotive, AEC-Q101, PAR®; Supplier 1: DigiKey; Supplier Part Number 1: 5KASMC12AHM3_A/HGICT-ND; Supplier Device Package: DO-214AB (SMCJ); Voltage - Clamping (Max) @ Ipp: 19.9V; Voltage - Reverse Standoff (Typ): 12V
footprint DO214AB SMC
pins: 1, 2

## 5KASMC13AHM3_A/H
designator D?
TVS DIODE 13V 21.5V DO214AB; Manufacturer: Vishay Semiconductor Diodes Division; Power Line Protection: No; Power - Peak Pulse: 5000W (5kW); Type: Zener; Unidirectional Channels: 1; Voltage - Breakdown (Min): 14.4V; Part Number: 5KASMC13AHM3_A/H; Applications: Automotive; ComponentLink1Description: Datasheet; ComponentLink1URL: http://www.vishay.com/docs/89432/5kasmc.pdf; ComponentLink2Description: DigiKey Link; ComponentLink2URL: http://digikey.com/product-detail/en/vishay-semiconductor-diodes-division/5KASMC13AHM3_A-H/5KASMC13AHM3_A-HGICT-ND/6710019; LastUpdated: 9/2/2020 1:20:06 AM; Lifecycle Status: Active; Minimum Order: 1; Mounting Type: Surface Mount; Operating Temperature: -65°C ~ 185°C (TJ); Package / Case: DO-214AB, SMC; Packaging: TapeAndReel; PartId: 6999; Part Status: Active; Price: 1.34; Series: Automotive, AEC-Q101, PAR®; Supplier 1: DigiKey; Supplier Part Number 1: 5KASMC13AHM3_A/HGICT-ND; Supplier Device Package: DO-214AB (SMCJ); Voltage - Clamping (Max) @ Ipp: 21.5V; Voltage - Reverse Standoff (Typ): 13V
footprint DO214AB SMC
pins: 1, 2

## 5KASMC24AHM3_A/H
designator D?
TVS DIODE 24V 38.9V DO214AB; Manufacturer: Vishay Semiconductor Diodes Division; Power Line Protection: No; Power - Peak Pulse: 5000W (5kW); Type: Zener; Unidirectional Channels: 1; Voltage - Breakdown (Min): 26.7V; Part Number: 5KASMC24AHM3_A/H; Applications: Automotive; ComponentLink1Description: Datasheet; ComponentLink1URL: http://www.vishay.com/docs/89432/5kasmc.pdf; ComponentLink2Description: DigiKey Link; ComponentLink2URL: http://digikey.com/product-detail/en/vishay-semiconductor-diodes-division/5KASMC24AHM3_A-H/5KASMC24AHM3_A-HGICT-ND/6710020; LastUpdated: 9/2/2020 1:20:00 AM; Lifecycle Status: Active; Minimum Order: 1; Mounting Type: Surface Mount; Operating Temperature: -65°C ~ 185°C (TJ); Package / Case: DO-214AB, SMC; Packaging: TapeAndReel; PartId: 6442; Part Status: Active; Price: 1.34; Series: Automotive, AEC-Q101, PAR®; Supplier 1: DigiKey; Supplier Part Number 1: 5KASMC24AHM3_A/HGICT-ND; Supplier Device Package: DO-214AB (SMCJ); Voltage - Clamping (Max) @ Ipp: 38.9V; Voltage - Reverse Standoff (Typ): 24V
footprint DO214AB SMC
pins: 1, 2

## 5KASMC28AHM3_A/H
designator D?
TVS DIODE 28V 45.4V DO214AB; Manufacturer: Vishay Semiconductor Diodes Division; Power Line Protection: No; Power - Peak Pulse: 5000W (5kW); Type: Zener; Unidirectional Channels: 1; Voltage - Breakdown (Min): 31.1V; Part Number: 5KASMC28AHM3_A/H; Applications: Automotive; ComponentLink1Description: Datasheet; ComponentLink1URL: http://www.vishay.com/docs/89432/5kasmc.pdf; ComponentLink2Description: DigiKey Link; ComponentLink2URL: http://digikey.com/product-detail/en/vishay-semiconductor-diodes-division/5KASMC28AHM3_A-H/5KASMC28AHM3_A-HGICT-ND/6710021; LastUpdated: 9/2/2020 1:20:04 AM; Lifecycle Status: Active; Minimum Order: 1; Mounting Type: Surface Mount; Operating Temperature: -65°C ~ 185°C (TJ); Package / Case: DO-214AB, SMC; Packaging: TapeAndReel; PartId: 6796; Part Status: Active; Price: 1.34; Series: Automotive, AEC-Q101, PAR®; Supplier 1: DigiKey; Supplier Part Number 1: 5KASMC28AHM3_A/HGICT-ND; Supplier Device Package: DO-214AB (SMCJ); Voltage - Clamping (Max) @ Ipp: 45.4V; Voltage - Reverse Standoff (Typ): 28V
footprint DO214AB SMC
pins: 1, 2

## 5KASMC30AHM3_A/H
designator D?
TVS DIODE 30V 48.4V DO214AB; Manufacturer: Vishay Semiconductor Diodes Division; Power Line Protection: No; Power - Peak Pulse: 5000W (5kW); Type: Zener; Unidirectional Channels: 1; Voltage - Breakdown (Min): 33.3V; Part Number: 5KASMC30AHM3_A/H; Applications: Automotive; ComponentLink1Description: Datasheet; ComponentLink1URL: http://www.vishay.com/docs/89432/5kasmc.pdf; ComponentLink2Description: DigiKey Link; ComponentLink2URL: http://digikey.com/product-detail/en/vishay-semiconductor-diodes-division/5KASMC30AHM3_A-H/5KASMC30AHM3_A-HGICT-ND/6710022; LastUpdated: 9/2/2020 1:20:00 AM; Lifecycle Status: Active; Minimum Order: 1; Mounting Type: Surface Mount; Operating Temperature: -65°C ~ 185°C (TJ); Package / Case: DO-214AB, SMC; Packaging: TapeAndReel; PartId: 6441; Part Status: Active; Price: 1.34; Series: Automotive, AEC-Q101, PAR®; Supplier 1: DigiKey; Supplier Part Number 1: 5KASMC30AHM3_A/HGICT-ND; Supplier Device Package: DO-214AB (SMCJ); Voltage - Clamping (Max) @ Ipp: 48.4V; Voltage - Reverse Standoff (Typ): 30V
footprint DO214AB SMC
pins: 1, 2

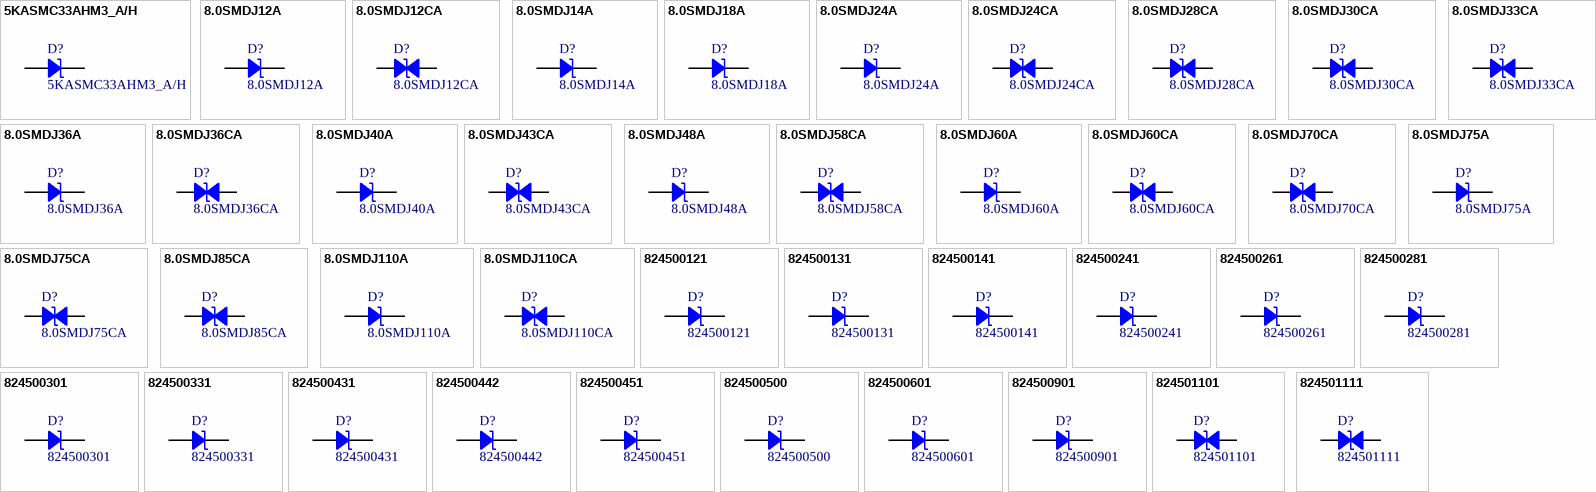
[diagram p15: symbols 5KASMC33AHM3_A/H to 824501111]

## 5KASMC33AHM3_A/H
designator D?
TVS DIODE 33V 53.3V DO214AB; Manufacturer: Vishay Semiconductor Diodes Division; Power Line Protection: No; Power - Peak Pulse: 5000W (5kW); Type: Zener; Unidirectional Channels: 1; Voltage - Breakdown (Min): 36.7V; Part Number: 5KASMC33AHM3_A/H; Applications: Automotive; ComponentLink1Description: Datasheet; ComponentLink1URL: http://www.vishay.com/docs/89432/5kasmc.pdf; ComponentLink2Description: DigiKey Link; ComponentLink2URL: http://digikey.com/product-detail/en/vishay-semiconductor-diodes-division/5KASMC33AHM3_A-H/5KASMC33AHM3_A-HGICT-ND/6710023; LastUpdated: 9/2/2020 1:20:00 AM; Lifecycle Status: Active; Minimum Order: 1; Mounting Type: Surface Mount; Operating Temperature: -65°C ~ 185°C (TJ); Package / Case: DO-214AB, SMC; Packaging: TapeAndReel; PartId: 6440; Part Status: Active; Price: 1.34; Series: Automotive, AEC-Q101, PAR®; Supplier 1: DigiKey; Supplier Part Number 1: 5KASMC33AHM3_A/HGICT-ND; Supplier Device Package: DO-214AB (SMCJ); Voltage - Clamping (Max) @ Ipp: 53.3V; Voltage - Reverse Standoff (Typ): 33V
footprint DO214AB SMC
pins: 1, 2

## 8.0SMDJ12A
designator D?
TVS DIODE 8KW 12V 5%UNI DO-214AB; Manufacturer: Littelfuse Inc.; Current - Peak Pulse (10/1000µs): 402.1A; Power Line Protection: No; Power - Peak Pulse: 8000W (8kW); Type: Zener; Unidirectional Channels: 1; Voltage - Breakdown (Min): 13.3V; Voltage - Clamping (Max) @ Ipp: 19.9V; Part Number: 8.0SMDJ12A; Applications: Telecom; ComponentLink1Description: Datasheet; ComponentLink1URL: https://www.littelfuse.com/~/media/electronics/datasheets/tvs_diodes/littelfuse_tvs_diode_8_0smdj_datasheet.pdf.pdf; ComponentLink2Description: DigiKey Link; ComponentLink2URL: http://digikey.com/product-detail/en/littelfuse-inc/8.0SMDJ12A/8.0SMDJ12ACT-ND/10269612; LastUpdated: 9/2/2020 1:20:04 AM; Lifecycle Status: Active; Minimum Order: 1; Mounting Type: Surface Mount; Operating Temperature: -65°C ~ 150°C (TJ); Package / Case: DO-214AB, SMC; Packaging: TapeAndReel; PartId: 6783; Part Status: Active; Price: 1.49; Series: 8.0SMDJ; Supplier 1: DigiKey; Supplier Part Number 1: 8.0SMDJ12ACT-ND; Supplier Device Package: DO-214AB (SMCJ); Voltage - Reverse Standoff (Typ): 12V
footprint DO214AB SMC
pins: 1, 2

## 8.0SMDJ12CA
designator D?
TVS DIODE 8KW 12V 5%BI DO-214AB; Manufacturer: Littelfuse Inc.; Bidirectional Channels: 1; Current - Peak Pulse (10/1000µs): 402.1A; Power Line Protection: No; Power - Peak Pulse: 8000W (8kW); Type: Zener; Voltage - Breakdown (Min): 13.3V; Voltage - Clamping (Max) @ Ipp: 19.9V; Part Number: 8.0SMDJ12CA; Applications: Telecom; ComponentLink1Description: Datasheet; ComponentLink1URL: https://www.littelfuse.com/~/media/electronics/datasheets/tvs_diodes/littelfuse_tvs_diode_8_0smdj_datasheet.pdf.pdf; ComponentLink2Description: DigiKey Link; ComponentLink2URL: http://digikey.com/product-detail/en/littelfuse-inc/8.0SMDJ12CA/8.0SMDJ12CACT-ND/10269613; LastUpdated: 9/2/2020 1:28:05 AM; Lifecycle Status: Active; Minimum Order: 1; Mounting Type: Surface Mount; Operating Temperature: -65°C ~ 150°C (TJ); Package / Case: DO-214AB, SMC; Packaging: TapeAndReel; PartId: 8391; Part Status: Active; Price: 1.62; Series: 8.0SMDJ; Supplier 1: DigiKey; Supplier Part Number 1: 8.0SMDJ12CACT-ND; Supplier Device Package: DO-214AB (SMCJ); Voltage - Reverse Standoff (Typ): 12V
footprint DO214AB SMC
pins: 1, 2

## 8.0SMDJ14A
designator D?
TVS DIODE 8KW 14V 5%UNI DO-214AB; Manufacturer: Littelfuse Inc.; Current - Peak Pulse (10/1000µs): 344.9A; Power Line Protection: No; Power - Peak Pulse: 8000W (8kW); Type: Zener; Unidirectional Channels: 1; Voltage - Breakdown (Min): 15.6V; Voltage - Clamping (Max) @ Ipp: 23.2V; Part Number: 8.0SMDJ14A; Applications: Telecom; ComponentLink1Description: Datasheet; ComponentLink1URL: https://www.littelfuse.com/~/media/electronics/datasheets/tvs_diodes/littelfuse_tvs_diode_8_0smdj_datasheet.pdf.pdf; ComponentLink2Description: DigiKey Link; ComponentLink2URL: http://digikey.com/product-detail/en/littelfuse-inc/8.0SMDJ14A/8.0SMDJ14ACT-ND/10269614; LastUpdated: 9/2/2020 1:20:03 AM; Lifecycle Status: Active; Minimum Order: 1; Mounting Type: Surface Mount; Operating Temperature: -65°C ~ 150°C (TJ); Package / Case: DO-214AB, SMC; Packaging: TapeAndReel; PartId: 6744; Part Status: Active; Price: 1.49; Series: 8.0SMDJ; Supplier 1: DigiKey; Supplier Part Number 1: 8.0SMDJ14ACT-ND; Supplier Device Package: DO-214AB (SMCJ); Voltage - Reverse Standoff (Typ): 14V
footprint DO214AB SMC
pins: 1, 2

## 8.0SMDJ18A
designator D?
TVS DIODE 8KW 16V 5%UNI DO-214AB; Manufacturer: Littelfuse Inc.; Current - Peak Pulse (10/1000µs): 274A; Power Line Protection: No; Power - Peak Pulse: 8000W (8kW); Type: Zener; Unidirectional Channels: 1; Voltage - Breakdown (Min): 20V; Voltage - Clamping (Max) @ Ipp: 29.2V; Voltage - Reverse Standoff (Typ): 18V; Part Number: 8.0SMDJ18A; Applications: Telecom; ComponentLink1Description: Datasheet; ComponentLink1URL: https://www.littelfuse.com/~/media/electronics/datasheets/tvs_diodes/littelfuse_tvs_diode_8_0smdj_datasheet.pdf.pdf; ComponentLink2Description: DigiKey Link; ComponentLink2URL: http://digikey.com/product-detail/en/littelfuse-inc/8.0SMDJ18A/8.0SMDJ18ACT-ND/10269615; LastUpdated: 9/2/2020 1:20:03 AM; Lifecycle Status: Active; Minimum Order: 1; Mounting Type: Surface Mount; Operating Temperature: -65°C ~ 150°C (TJ); Package / Case: DO-214AB, SMC; Packaging: TapeAndReel; PartId: 6780; Part Status: Active; Price: 1.49; Series: 8.0SMDJ; Supplier 1: DigiKey; Supplier Part Number 1: 8.0SMDJ18ACT-ND; Supplier Device Package: DO-214AB (SMCJ)
footprint DO214AB SMC
pins: 1, 2

## 8.0SMDJ24A
designator D?
TVS DIODE 8KW 24V 5%UNI DO-214AB; Manufacturer: Littelfuse Inc.; Current - Peak Pulse (10/1000µs): 205.7A; Power Line Protection: No; Power - Peak Pulse: 8000W (8kW); Type: Zener; Unidirectional Channels: 1; Voltage - Breakdown (Min): 26.7V; Voltage - Clamping (Max) @ Ipp: 38.9V; Part Number: 8.0SMDJ24A; Applications: Telecom; ComponentLink1Description: Datasheet; ComponentLink1URL: https://www.littelfuse.com/~/media/electronics/datasheets/tvs_diodes/littelfuse_tvs_diode_8_0smdj_datasheet.pdf.pdf; ComponentLink2Description: DigiKey Link; ComponentLink2URL: http://digikey.com/product-detail/en/littelfuse-inc/8.0SMDJ24A/8.0SMDJ24ACT-ND/10269616; LastUpdated: 9/2/2020 1:20:04 AM; Lifecycle Status: Active; Minimum Order: 1; Mounting Type: Surface Mount; Operating Temperature: -65°C ~ 150°C (TJ); Package / Case: DO-214AB, SMC; Packaging: TapeAndReel; PartId: 6782; Part Status: Active; Price: 1.49; Series: 8.0SMDJ; Supplier 1: DigiKey; Supplier Part Number 1: 8.0SMDJ24ACT-ND; Supplier Device Package: DO-214AB (SMCJ); Voltage - Reverse Standoff (Typ): 24V
footprint DO214AB SMC
pins: 1, 2

## 8.0SMDJ24CA
designator D?
TVS DIODE 8KW 24V 5%BI DO-214AB; Manufacturer: Littelfuse Inc.; Bidirectional Channels: 1; Current - Peak Pulse (10/1000µs): 205.7A; Power Line Protection: No; Power - Peak Pulse: 8000W (8kW); Type: Zener; Voltage - Breakdown (Min): 26.7V; Voltage - Clamping (Max) @ Ipp: 38.9V; Part Number: 8.0SMDJ24CA; Applications: Telecom; ComponentLink1Description: Datasheet; ComponentLink1URL: https://www.littelfuse.com/~/media/electronics/datasheets/tvs_diodes/littelfuse_tvs_diode_8_0smdj_datasheet.pdf.pdf; ComponentLink2Description: DigiKey Link; ComponentLink2URL: http://digikey.com/product-detail/en/littelfuse-inc/8.0SMDJ24CA/8.0SMDJ24CADKR-ND/10269741; LastUpdated: 9/2/2020 1:28:06 AM; Lifecycle Status: Active; Minimum Order: 1; Mounting Type: Surface Mount; Operating Temperature: -65°C ~ 150°C (TJ); Package / Case: DO-214AB, SMC; Packaging: TapeAndReel; PartId: 8479; Part Status: Active; Price: 1.62; Series: 8.0SMDJ; Supplier 1: DigiKey; Supplier Part Number 1: 8.0SMDJ24CADKR-ND; Supplier Device Package: DO-214AB (SMCJ); Voltage - Reverse Standoff (Typ): 24V
footprint DO214AB SMC
pins: 1, 2

## 8.0SMDJ28CA
designator D?
TVS DIODE 8KW 28V 5%BI DO-214AB; Manufacturer: Littelfuse Inc.; Bidirectional Channels: 1; Current - Peak Pulse (10/1000µs): 176.2A; Power Line Protection: No; Power - Peak Pulse: 8000W (8kW); Type: Zener; Voltage - Breakdown (Min): 31.1V; Voltage - Clamping (Max) @ Ipp: 45.4V; Part Number: 8.0SMDJ28CA; Applications: Telecom; ComponentLink1Description: Datasheet; ComponentLink1URL: https://www.littelfuse.com/~/media/electronics/datasheets/tvs_diodes/littelfuse_tvs_diode_8_0smdj_datasheet.pdf.pdf; ComponentLink2Description: DigiKey Link; ComponentLink2URL: http://digikey.com/product-detail/en/littelfuse-inc/8.0SMDJ28CA/8.0SMDJ28CACT-ND/10269618; LastUpdated: 9/2/2020 1:28:06 AM; Lifecycle Status: Active; Minimum Order: 1; Mounting Type: Surface Mount; Operating Temperature: -65°C ~ 150°C (TJ); Package / Case: DO-214AB, SMC; Packaging: TapeAndReel; PartId: 8392; Part Status: Active; Price: 1.62; Series: 8.0SMDJ; Supplier 1: DigiKey; Supplier Part Number 1: 8.0SMDJ28CACT-ND; Supplier Device Package: DO-214AB (SMCJ); Voltage - Reverse Standoff (Typ): 28V
footprint DO214AB SMC
pins: 1, 2

## 8.0SMDJ30CA
designator D?
TVS DIODE 8KW 30V 5%BI DO-214AB; Manufacturer: Littelfuse Inc.; Bidirectional Channels: 1; Current - Peak Pulse (10/1000µs): 165.3A; Power Line Protection: No; Power - Peak Pulse: 8000W (8kW); Type: Zener; Voltage - Breakdown (Min): 33.3V; Voltage - Clamping (Max) @ Ipp: 48.4V; Part Number: 8.0SMDJ30CA; Applications: Telecom; ComponentLink1Description: Datasheet; ComponentLink1URL: https://www.littelfuse.com/~/media/electronics/datasheets/tvs_diodes/littelfuse_tvs_diode_8_0smdj_datasheet.pdf.pdf; ComponentLink2Description: DigiKey Link; ComponentLink2URL: http://digikey.com/product-detail/en/littelfuse-inc/8.0SMDJ30CA/8.0SMDJ30CACT-ND/10269619; LastUpdated: 9/2/2020 1:28:06 AM; Lifecycle Status: Active; Minimum Order: 1; Mounting Type: Surface Mount; Operating Temperature: -65°C ~ 150°C (TJ); Package / Case: DO-214AB, SMC; Packaging: TapeAndReel; PartId: 8477; Part Status: Active; Price: 1.62; Series: 8.0SMDJ; Supplier 1: DigiKey; Supplier Part Number 1: 8.0SMDJ30CACT-ND; Supplier Device Package: DO-214AB (SMCJ); Voltage - Reverse Standoff (Typ): 30V
footprint DO214AB SMC
pins: 1, 2

## 8.0SMDJ33CA
designator D?
TVS DIODE 8KW 33V 5%BI DO-214AB; Manufacturer: Littelfuse Inc.; Bidirectional Channels: 1; Current - Peak Pulse (10/1000µs): 150.1A; Power Line Protection: No; Power - Peak Pulse: 8000W (8kW); Type: Zener; Voltage - Breakdown (Min): 36.7V; Voltage - Clamping (Max) @ Ipp: 53.3V; Part Number: 8.0SMDJ33CA; Applications: Telecom; ComponentLink1Description: Datasheet; ComponentLink1URL: https://www.littelfuse.com/~/media/electronics/datasheets/tvs_diodes/littelfuse_tvs_diode_8_0smdj_datasheet.pdf.pdf; ComponentLink2Description: DigiKey Link; ComponentLink2URL: http://digikey.com/product-detail/en/littelfuse-inc/8.0SMDJ33CA/8.0SMDJ33CACT-ND/10269620; LastUpdated: 9/2/2020 1:28:06 AM; Lifecycle Status: Active; Minimum Order: 1; Mounting Type: Surface Mount; Operating Temperature: -65°C ~ 150°C (TJ); Package / Case: DO-214AB, SMC; Packaging: TapeAndReel; PartId: 8478; Part Status: Active; Price: 1.62; Series: 8.0SMDJ; Supplier 1: DigiKey; Supplier Part Number 1: 8.0SMDJ33CACT-ND; Supplier Device Package: DO-214AB (SMCJ); Voltage - Reverse Standoff (Typ): 33V
footprint DO214AB SMC
pins: 1, 2

## 8.0SMDJ36A
designator D?
TVS DIODE 8KW 36V 5%UNI DO-214AB; Manufacturer: Littelfuse Inc.; Current - Peak Pulse (10/1000µs): 137.8A; Power Line Protection: No; Power - Peak Pulse: 8000W (8kW); Type: Zener; Unidirectional Channels: 1; Voltage - Breakdown (Min): 40V; Voltage - Clamping (Max) @ Ipp: 58.1V; Part Number: 8.0SMDJ36A; Applications: Telecom; ComponentLink1Description: Datasheet; ComponentLink1URL: https://www.littelfuse.com/~/media/electronics/datasheets/tvs_diodes/littelfuse_tvs_diode_8_0smdj_datasheet.pdf.pdf; ComponentLink2Description: DigiKey Link; ComponentLink2URL: http://digikey.com/product-detail/en/littelfuse-inc/8.0SMDJ36A/8.0SMDJ36ACT-ND/10269621; LastUpdated: 9/2/2020 1:20:03 AM; Lifecycle Status: Active; Minimum Order: 1; Mounting Type: Surface Mount; Operating Temperature: -65°C ~ 150°C (TJ); Package / Case: DO-214AB, SMC; Packaging: TapeAndReel; PartId: 6781; Part Status: Active; Price: 1.49; Series: 8.0SMDJ; Supplier 1: DigiKey; Supplier Part Number 1: 8.0SMDJ36ACT-ND; Supplier Device Package: DO-214AB (SMCJ); Voltage - Reverse Standoff (Typ): 36V
footprint DO214AB SMC
pins: 1, 2